# Altium schematic symbol library CRCW040249K9FKED.SchLib: 1 symbol
Pins are listed as number, name and electrical type; pins without a type are passive.

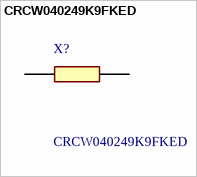
[diagram p0: symbol CRCW040249K9FKED]

## CRCW040249K9FKED
designator X?
Vishay CRCW Series Thick Film Surface Mount Resistor 0402 Case 49.9k +/-1% 0.063W +/-100ppm/C; Geometry.Height: 0.4mm; Manufacturer_Name: Vishay; Manufacturer_Part_Number: CRCW040249K9FKED; Mouser Part Number: 71-CRCW0402-49.9K-E3; Mouser Price/Stock: https://www.mouser.co.uk/ProductDetail/Vishay-Dale/CRCW040249K9FKED?qs=hAuyw6LW%252BLhwjtjsHx%2FGDQ%3D%3D; Arrow Part Number: CRCW040249K9FKED; Arrow Price/Stock: https://www.arrow.com/en/products/crcw040249k9fked/vishay?region=nac; Datasheet Link: http://www.vishay.com/docs/20035/dcrcwe3.pdf
footprint RESC1005X40N
pins: 1, 2